# EAGLE library part MSP430BT5190-ZQW113 (library TI MSP430BT5190)
***MSP430F54xx***PZ100
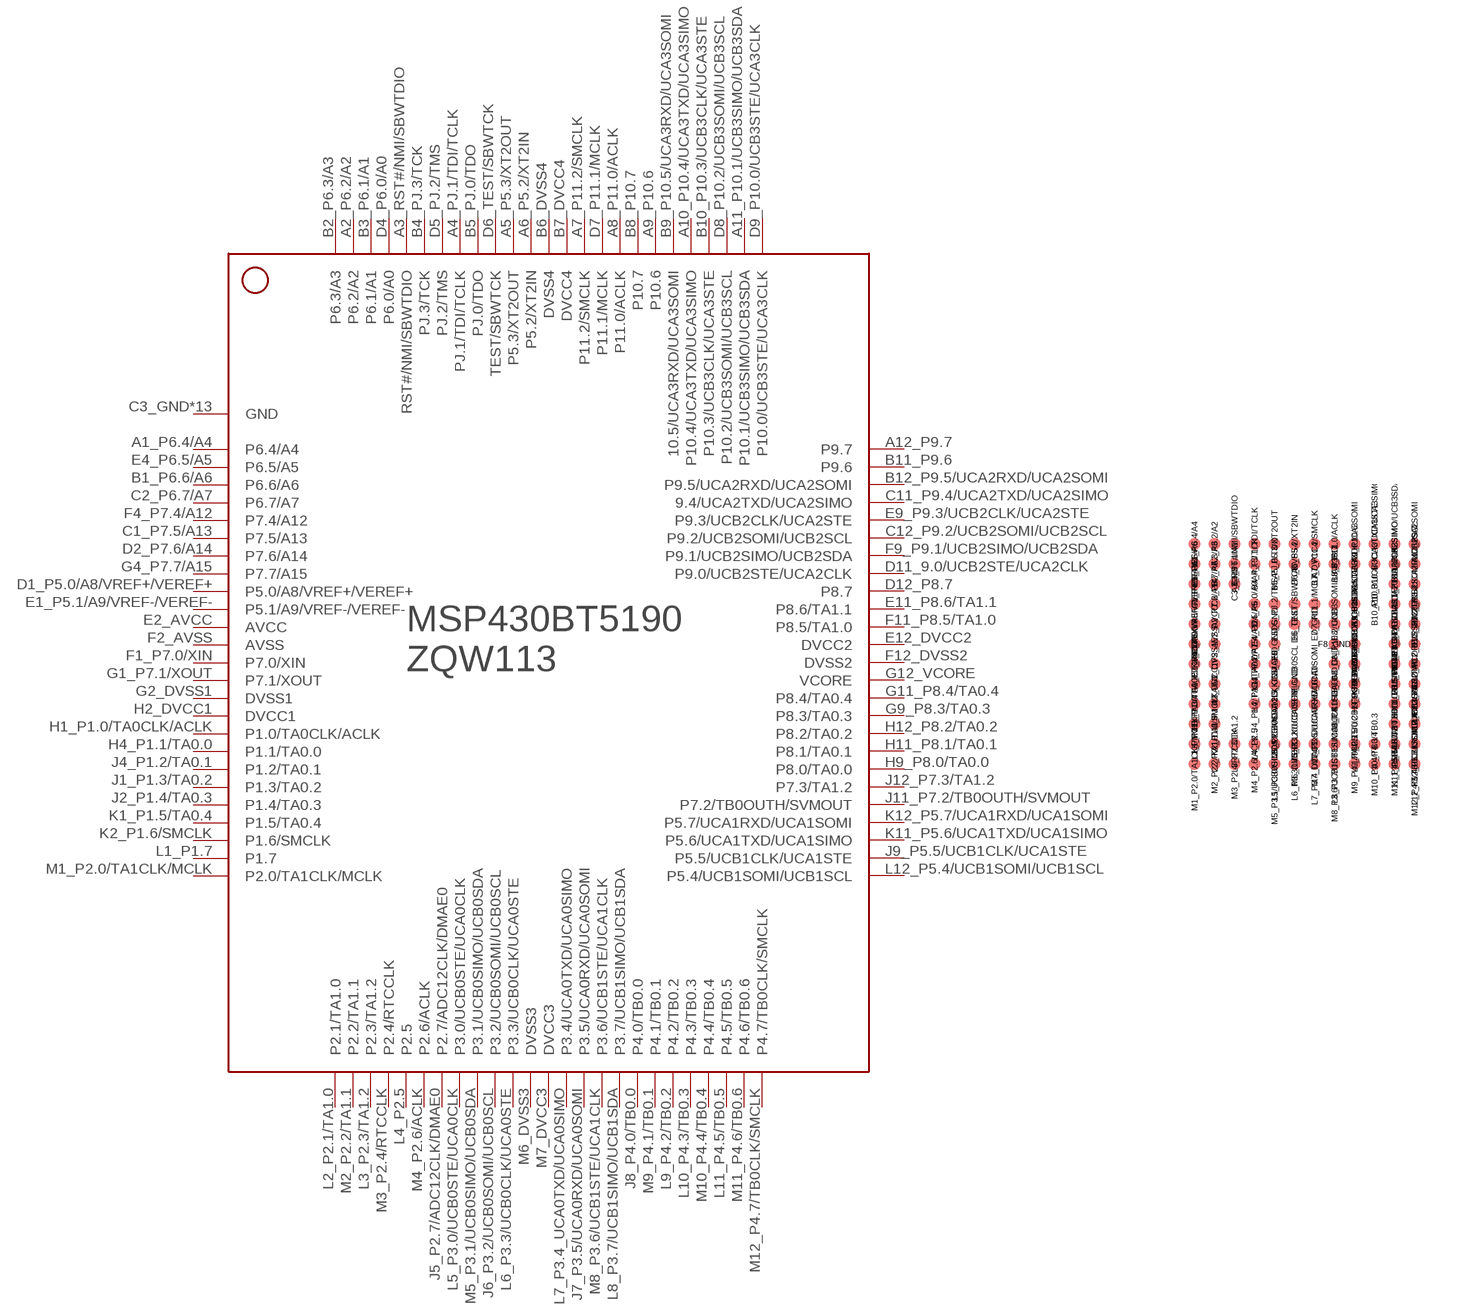
[diagram p1: symbol with the pads of ZQW113; footprint ZQW113]

Designator prefix -

## MSP430BT5190-ZQW113  [ZQW113]
A1_P6.4/A4  P6.4/A4
A2_P6.2/A2  P6.2/A2
A3_RST#/NMI/SBWTDIO  RST#/NMI/SBWTDIO
A4_PJ.1/TDI/TCLK  PJ.1/TDI/TCLK
A5_P5.3/XT2OUT  P5.3/XT2OUT
A6_P5.2/XT2IN  P5.2/XT2IN
A7_P11.2/SMCLK  P11.2/SMCLK
A8_P11.0/ACLK  P11.0/ACLK
A9_P10.6  P10.6
A10_P10.4/UCA3TXD/UCA3SIMO  P10.4/UCA3TXD/UCA3SIMO
A11_P10.1/UCB3SIMO/UCB3SDA  P10.1/UCB3SIMO/UCB3SDA
A12_P9.7  P9.7
B1_P6.6/A6  P6.6/A6
B2_P6.3/A3  P6.3/A3
B3_P6.1/A1  P6.1/A1
B4_PJ.3/TCK  PJ.3/TCK
B5_PJ.0/TDO  PJ.0/TDO
B6_DVSS4  DVSS4
B7_DVCC4  DVCC4
B8_P10.7  P10.7
B9_P10.5/UCA3RXD/UCA3SOMI  10.5/UCA3RXD/UCA3SOMI
B10_P10.3/UCB3CLK/UCA3STE  P10.3/UCB3CLK/UCA3STE
B11_P9.6  P9.6
B12_P9.5/UCA2RXD/UCA2SOMI  P9.5/UCA2RXD/UCA2SOMI
C1_P7.5/A13  P7.5/A13
C2_P6.7/A7  P6.7/A7
C3_GND  GND
C11_P9.4/UCA2TXD/UCA2SIMO  9.4/UCA2TXD/UCA2SIMO
C12_P9.2/UCB2SOMI/UCB2SCL  P9.2/UCB2SOMI/UCB2SCL
D1_P5.0/A8/VREF+/VEREF+  P5.0/A8/VREF+/VEREF+
D2_P7.6/A14  P7.6/A14
D4_P6.0/A0  P6.0/A0
D5_PJ.2/TMS  PJ.2/TMS
D6_TEST/SBWTCK  TEST/SBWTCK
D7_P11.1/MCLK  P11.1/MCLK
D8_P10.2/UCB3SOMI/UCB3SCL  P10.2/UCB3SOMI/UCB3SCL
D9_P10.0/UCB3STE/UCA3CLK  P10.0/UCB3STE/UCA3CLK
D11_9.0/UCB2STE/UCA2CLK  P9.0/UCB2STE/UCA2CLK
D12_P8.7  P8.7
E1_P5.1/A9/VREF-/VEREF-  P5.1/A9/VREF-/VEREF-
E2_AVCC  AVCC
E4_P6.5/A5  P6.5/A5
E5_GND  GND
E6_GND  GND
E7_GND  GND
E8_GND  GND
E9_P9.3/UCB2CLK/UCA2STE  P9.3/UCB2CLK/UCA2STE
E11_P8.6/TA1.1  P8.6/TA1.1
E12_DVCC2  DVCC2
F1_P7.0/XIN  P7.0/XIN
F2_AVSS  AVSS
F4_P7.4/A12  P7.4/A12
F5_GND  GND
F8_GND  GND
F9_P9.1/UCB2SIMO/UCB2SDA  P9.1/UCB2SIMO/UCB2SDA
F11_P8.5/TA1.0  P8.5/TA1.0
F12_DVSS2  DVSS2
G1_P7.1/XOUT  P7.1/XOUT
G2_DVSS1  DVSS1
G4_P7.7/A15  P7.7/A15
G5_GND  GND
G8_GND  GND
G9_P8.3/TA0.3  P8.3/TA0.3
G11_P8.4/TA0.4  P8.4/TA0.4
G12_VCORE  VCORE
H1_P1.0/TA0CLK/ACLK  P1.0/TA0CLK/ACLK
H2_DVCC1  DVCC1
H4_P1.1/TA0.0  P1.1/TA0.0
H5_GND  GND
H6_GND  GND
H7_GND  GND
H8_GND  GND
H9_P8.0/TA0.0  P8.0/TA0.0
H11_P8.1/TA0.1  P8.1/TA0.1
H12_P8.2/TA0.2  P8.2/TA0.2
J1_P1.3/TA0.2  P1.3/TA0.2
J2_P1.4/TA0.3  P1.4/TA0.3
J4_P1.2/TA0.1  P1.2/TA0.1
J5_P2.7/ADC12CLK/DMAE0  P2.7/ADC12CLK/DMAE0
J6_P3.2/UCB0SOMI/UCB0SCL  P3.2/UCB0SOMI/UCB0SCL
J7_P3.5/UCA0RXD/UCA0SOMI  P3.5/UCA0RXD/UCA0SOMI
J8_P4.0/TB0.0  P4.0/TB0.0
J9_P5.5/UCB1CLK/UCA1STE  P5.5/UCB1CLK/UCA1STE
J11_P7.2/TB0OUTH/SVMOUT  P7.2/TB0OUTH/SVMOUT
J12_P7.3/TA1.2  P7.3/TA1.2
K1_P1.5/TA0.4  P1.5/TA0.4
K2_P1.6/SMCLK  P1.6/SMCLK
K11_P5.6/UCA1TXD/UCA1SIMO  P5.6/UCA1TXD/UCA1SIMO
K12_P5.7/UCA1RXD/UCA1SOMI  P5.7/UCA1RXD/UCA1SOMI
L1_P1.7  P1.7
L2_P2.1/TA1.0  P2.1/TA1.0
L3_P2.3/TA1.2  P2.3/TA1.2
L4_P2.5  P2.5
L5_P3.0/UCB0STE/UCA0CLK  P3.0/UCB0STE/UCA0CLK
L6_P3.3/UCB0CLK/UCA0STE  P3.3/UCB0CLK/UCA0STE
L7_P3.4_UCA0TXD/UCA0SIMO  P3.4/UCA0TXD/UCA0SIMO
L8_P3.7/UCB1SIMO/UCB1SDA  P3.7/UCB1SIMO/UCB1SDA
L9_P4.2/TB0.2  P4.2/TB0.2
L10_P4.3/TB0.3  P4.3/TB0.3
L11_P4.5/TB0.5  P4.5/TB0.5
L12_P5.4/UCB1SOMI/UCB1SCL  P5.4/UCB1SOMI/UCB1SCL
M1_P2.0/TA1CLK/MCLK  P2.0/TA1CLK/MCLK
M2_P2.2/TA1.1  P2.2/TA1.1
M3_P2.4/RTCCLK  P2.4/RTCCLK
M4_P2.6/ACLK  P2.6/ACLK
M5_P3.1/UCB0SIMO/UCB0SDA  P3.1/UCB0SIMO/UCB0SDA
M6_DVSS3  DVSS3
M7_DVCC3  DVCC3
M8_P3.6/UCB1STE/UCA1CLK  P3.6/UCB1STE/UCA1CLK
M9_P4.1/TB0.1  P4.1/TB0.1
M10_P4.4/TB0.4  P4.4/TB0.4
M11_P4.6/TB0.6  P4.6/TB0.6
M12_P4.7/TB0CLK/SMCLK  P4.7/TB0CLK/SMCLK

## Footprint ZQW113 (pad centres in mm)
ZQW113 BGA package; 0.5mm pitch
smd 0.3 x 0.3: A1_P6.4/A4 0.75,6.25; A2_P6.2/A2 1.25,6.25; A3_RST#/NMI/SBWTDIO 1.75,6.25; A4_PJ.1/TDI/TCLK 2.25,6.25; A5_P5.3/XT2OUT 2.75,6.25; A6_P5.2/XT2IN 3.25,6.25; A7_P11.2/SMCLK 3.75,6.25; A8_P11.0/ACLK 4.25,6.25; A9_P10.6 4.75,6.25; A10_P10.4/UCA3TXD/UCA3SIMO 5.25,6.25; A11_P10.1/UCB3SIMO/UCB3SDA 5.75,6.25; A12_P9.7 6.25,6.25; B1_P6.6/A6 0.75,5.75; B2_P6.3/A3 1.25,5.75; B3_P6.1/A1 1.75,5.75; B4_PJ.3/TCK 2.25,5.75; B5_PJ.0/TDO 2.75,5.75; B6_DVSS4 3.25,5.75; B7_DVCC4 3.75,5.75; B8_P10.7 4.25,5.75; B9_P10.5/UCA3RXD/UCA3SOMI 4.75,5.75; B10_P10.3/UCB3CLK/UCA3STE 5.25,5.75; B11_P9.6 5.75,5.75; B12_P9.5/UCA2RXD/UCA2SOMI 6.25,5.75; C1_P7.5/A13 0.75,5.25; C2_P6.7/A7 1.25,5.25; C3_GND 1.75,5.25; C11_P9.4/UCA2TXD/UCA2SIMO 5.75,5.25; C12_P9.2/UCB2SOMI/UCB2SCL 6.25,5.25; D1_P5.0/A8/VREF+/VEREF+ 0.75,4.75; D2_P7.6/A14 1.25,4.75; D4_P6.0/A0 2.25,4.75; D5_PJ.2/TMS 2.75,4.75; D6_TEST/SBWTCK 3.25,4.75; D7_P11.1/MCLK 3.75,4.75; D8_P10.2/UCB3SOMI/UCB3SCL 4.25,4.75; D9_P10.0/UCB3STE/UCA3CLK 4.75,4.75; D11_9.0/UCB2STE/UCA2CLK 5.75,4.75; D12_P8.7 6.25,4.75; E1_P5.1/A9/VREF-/VEREF- 0.75,4.25; E2_AVCC 1.25,4.25; E4_P6.5/A5 2.25,4.25; E5_GND 2.75,4.25; E6_GND 3.25,4.25; E7_GND 3.75,4.25; E8_GND 4.25,4.25; E9_P9.3/UCB2CLK/UCA2STE 4.75,4.25; E11_P8.6/TA1.1 5.75,4.25; E12_DVCC2 6.25,4.25; F1_P7.0/XIN 0.75,3.75; F2_AVSS 1.25,3.75; F4_P7.4/A12 2.25,3.75; F5_GND 2.75,3.75; F8_GND 4.25,3.75; F9_P9.1/UCB2SIMO/UCB2SDA 4.75,3.75; F11_P8.5/TA1.0 5.75,3.75; F12_DVSS2 6.25,3.75; G1_P7.1/XOUT 0.75,3.25; G2_DVSS1 1.25,3.25; G4_P7.7/A15 2.25,3.25; G5_GND 2.75,3.25; G8_GND 4.25,3.25; G9_P8.3/TA0.3 4.75,3.25; G11_P8.4/TA0.4 5.75,3.25; G12_VCORE 6.25,3.25; H1_P1.0/TA0CLK/ACLK 0.75,2.75; H2_DVCC1 1.25,2.75; H4_P1.1/TA0.0 2.25,2.75; H5_GND 2.75,2.75; H6_GND 3.25,2.75; H7_GND 3.75,2.75; H8_GND 4.25,2.75; H9_P8.0/TA0.0 4.75,2.75; H11_P8.1/TA0.1 5.75,2.75; H12_P8.2/TA0.2 6.25,2.75; J1_P1.3/TA0.2 0.75,2.25; J2_P1.4/TA0.3 1.25,2.25; J4_P1.2/TA0.1 2.25,2.25; J5_P2.7/ADC12CLK/DMAE0 2.75,2.25; J6_P3.2/UCB0SOMI/UCB0SCL 3.25,2.25; J7_P3.5/UCA0RXD/UCA0SOMI 3.75,2.25; J8_P4.0/TB0.0 4.25,2.25; J9_P5.5/UCB1CLK/UCA1STE 4.75,2.25; J11_P7.2/TB0OUTH/SVMOUT 5.75,2.25; J12_P7.3/TA1.2 6.25,2.25; K1_P1.5/TA0.4 0.75,1.75; K2_P1.6/SMCLK 1.25,1.75; K11_P5.6/UCA1TXD/UCA1SIMO 5.75,1.75; K12_P5.7/UCA1RXD/UCA1SOMI 6.25,1.75; L1_P1.7 0.75,1.25; L2_P2.1/TA1.0 1.25,1.25; L3_P2.3/TA1.2 1.75,1.25; L4_P2.5 2.25,1.25; L5_P3.0/UCB0STE/UCA0CLK 2.75,1.25; L6_P3.3/UCB0CLK/UCA0STE 3.25,1.25; L7_P3.4_UCA0TXD/UCA0SIMO 3.75,1.25; L8_P3.7/UCB1SIMO/UCB1SDA 4.25,1.25; L9_P4.2/TB0.2 4.75,1.25; L10_P4.3/TB0.3 5.25,1.25; L11_P4.5/TB0.5 5.75,1.25; L12_P5.4/UCB1SOMI/UCB1SCL 6.25,1.25; M1_P2.0/TA1CLK/MCLK 0.75,0.75; M2_P2.2/TA1.1 1.25,0.75; M3_P2.4/RTCCLK 1.75,0.75; M4_P2.6/ACLK 2.25,0.75; M5_P3.1/UCB0SIMO/UCB0SDA 2.75,0.75; M6_DVSS3 3.25,0.75; M7_DVCC3 3.75,0.75; M8_P3.6/UCB1STE/UCA1CLK 4.25,0.75; M9_P4.1/TB0.1 4.75,0.75; M10_P4.4/TB0.4 5.25,0.75; M11_P4.6/TB0.6 5.75,0.75; M12_P4.7/TB0CLK/SMCLK 6.25,0.75